# Altium footprint library Philips Footprints.PcbLib: 101 footprints (part 7 of 7)
Each footprint in its own frame and in the unit in brackets; x right, y up, seen from the top. Pads: shape width x height; smd on the part's side, far side on the other; paste and mask are expansions set on the pad; w line width, h text height; cw(c..) or ccw(c..) is an arc to the next point about the centre after c.
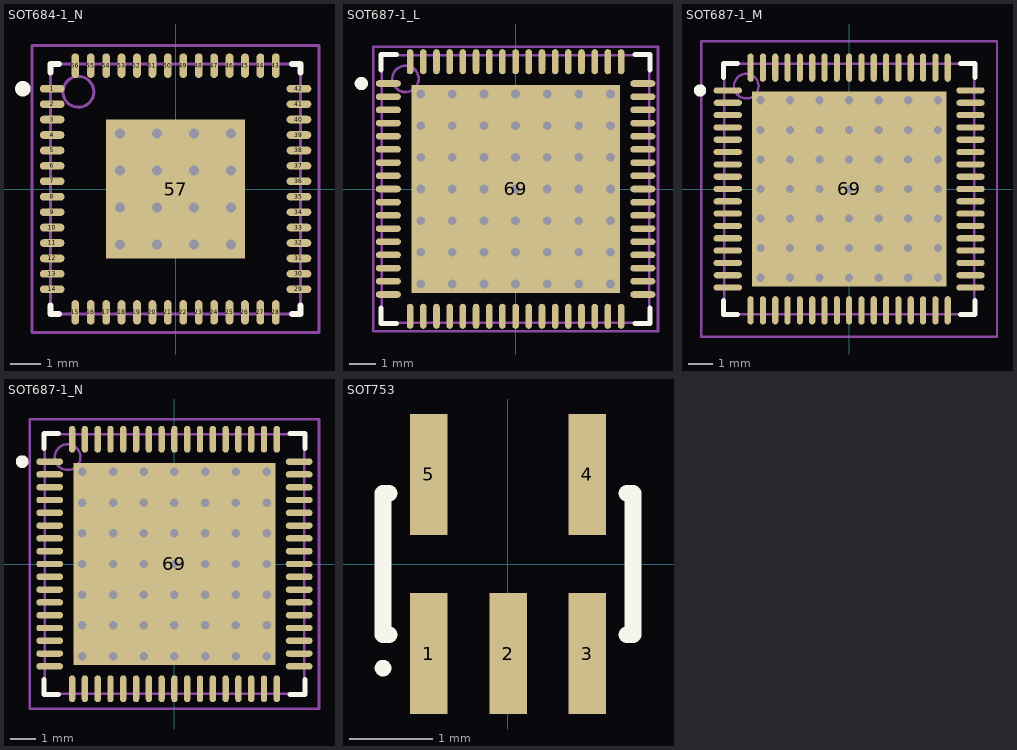
[diagram p6: the footprints below, top view; thin cyan lines are the x and y axes]

## SOT684-1_N [mm] "56-Pin Plastic Quad Flat No-Lead 0.5 mm Pitch, IPC Medium Density"
height 1
pads (57):
  oval 0.8x0.25 smd: 1(-4,3.25) 2(-4,2.75) 3(-4,2.25) 4(-4,1.75) 5(-4,1.25) 6(-4,0.75) 7(-4,0.25) 8(-4,-0.25) 9(-4,-0.75) 10(-4,-1.25) 11(-4,-1.75) 12(-4,-2.25) 13(-4,-2.75) 14(-4,-3.25) 29(4,-3.25) 30(4,-2.75) 31(4,-2.25) 32(4,-1.75) 33(4,-1.25) 34(4,-0.75) 35(4,-0.25) 36(4,0.25) 37(4,0.75) 38(4,1.25) 39(4,1.75) 40(4,2.25) 41(4,2.75) 42(4,3.25)
  oval 0.25x0.8 smd: 15(-3.25,-4) 16(-2.75,-4) 17(-2.25,-4) 18(-1.75,-4) 19(-1.25,-4) 20(-0.75,-4) 21(-0.25,-4) 22(0.25,-4) 23(0.75,-4) 24(1.25,-4) 25(1.75,-4) 26(2.25,-4) 27(2.75,-4) 28(3.25,-4) 43(3.25,4) 44(2.75,4) 45(2.25,4) 46(1.75,4) 47(1.25,4) 48(0.75,4) 49(0.25,4) 50(-0.25,4) 51(-0.75,4) 52(-1.25,4) 53(-1.75,4) 54(-2.25,4) 55(-2.75,4) 56(-3.25,4)
  rect 4.5x4.5 smd: 57(0,0)
via 1.8,-1.8 diameter 0.66 hole 0.33
via 0.6,-1.8 diameter 0.66 hole 0.33
via -0.6,-1.8 diameter 0.66 hole 0.33
via -1.8,-1.8 diameter 0.66 hole 0.33
via 1.8,-0.6 diameter 0.66 hole 0.33
via 0.6,-0.6 diameter 0.66 hole 0.33
via -0.6,-0.6 diameter 0.66 hole 0.33
via -1.8,-0.6 diameter 0.66 hole 0.33
via 1.8,0.6 diameter 0.66 hole 0.33
via 0.6,0.6 diameter 0.66 hole 0.33
via -0.6,0.6 diameter 0.66 hole 0.33
via -1.8,0.6 diameter 0.66 hole 0.33
via 1.8,1.8 diameter 0.66 hole 0.33
via 0.6,1.8 diameter 0.66 hole 0.33
via -0.6,1.8 diameter 0.66 hole 0.33
via -1.8,1.8 diameter 0.66 hole 0.33
Top Overlay:
  circle w0.25: c-4.95,3.25 r0.125
  lines w0.2: -4.05,-3.775 -4.05,-4.05 -3.775,-4.05 ; -4.05,3.775 -4.05,4.05 -3.775,4.05 ; 3.775,-4.05 4.05,-4.05 4.05,-3.775 ; 3.775,4.05 4.05,4.05 4.05,3.775
Mechanical 13:
  circle w0.1: c-3.15,3.15 r0.5
  lines w0.1: -4.05,-4.05 4.05,-4.05 4.05,4.05 -4.05,4.05 -4.05,-4.05
Mechanical 15:
  lines w0.1: -0.5,0 0.5,0 ; 0,-0.5 0,0.5 ; -4.65,-4.65 4.65,-4.65 4.65,4.65 -4.65,4.65 -4.65,-4.65
3D body: height 1, standoff 0, extent -4.05,-4.05 4.05,4.05

## SOT687-1_L [mm] "68-Pin Plastic Quad Flat No-Lead 0.5 mm Pitch, IPC High Density"
height 1
pads (69):
  oval 0.95x0.25 smd: 1(-4.825,4) 2(-4.825,3.5) 3(-4.825,3) 4(-4.825,2.5) 5(-4.825,2) 6(-4.825,1.5) 7(-4.825,1) 8(-4.825,0.5) 9(-4.825,0) 10(-4.825,-0.5) 11(-4.825,-1) 12(-4.825,-1.5) 13(-4.825,-2) 14(-4.825,-2.5) 15(-4.825,-3) 16(-4.825,-3.5) 17(-4.825,-4) 35(4.825,-4) 36(4.825,-3.5) 37(4.825,-3) 38(4.825,-2.5) 39(4.825,-2) 40(4.825,-1.5) 41(4.825,-1) 42(4.825,-0.5) 43(4.825,0) 44(4.825,0.5) 45(4.825,1) 46(4.825,1.5) 47(4.825,2) 48(4.825,2.5) 49(4.825,3) 50(4.825,3.5) 51(4.825,4)
  oval 0.25x0.95 smd: 18(-4,-4.825) 19(-3.5,-4.825) 20(-3,-4.825) 21(-2.5,-4.825) 22(-2,-4.825) 23(-1.5,-4.825) 24(-1,-4.825) 25(-0.5,-4.825) 26(0,-4.825) 27(0.5,-4.825) 28(1,-4.825) 29(1.5,-4.825) 30(2,-4.825) 31(2.5,-4.825) 32(3,-4.825) 33(3.5,-4.825) 34(4,-4.825) 52(4,4.825) 53(3.5,4.825) 54(3,4.825) 55(2.5,4.825) 56(2,4.825) 57(1.5,4.825) 58(1,4.825) 59(0.5,4.825) 60(0,4.825) 61(-0.5,4.825) 62(-1,4.825) 63(-1.5,4.825) 64(-2,4.825) 65(-2.5,4.825) 66(-3,4.825) 67(-3.5,4.825) 68(-4,4.825)
  rect 7.9x7.9 smd: 69(0,0)
via 3.6,-3.6 diameter 0.66 hole 0.33
via 2.4,-3.6 diameter 0.66 hole 0.33
via 1.2,-3.6 diameter 0.66 hole 0.33
via 0,-3.6 diameter 0.66 hole 0.33
via -1.2,-3.6 diameter 0.66 hole 0.33
via -2.4,-3.6 diameter 0.66 hole 0.33
via -3.6,-3.6 diameter 0.66 hole 0.33
via 3.6,-2.4 diameter 0.66 hole 0.33
via 2.4,-2.4 diameter 0.66 hole 0.33
via 1.2,-2.4 diameter 0.66 hole 0.33
via 0,-2.4 diameter 0.66 hole 0.33
via -1.2,-2.4 diameter 0.66 hole 0.33
via -2.4,-2.4 diameter 0.66 hole 0.33
via -3.6,-2.4 diameter 0.66 hole 0.33
via 3.6,-1.2 diameter 0.66 hole 0.33
via 2.4,-1.2 diameter 0.66 hole 0.33
via 1.2,-1.2 diameter 0.66 hole 0.33
via 0,-1.2 diameter 0.66 hole 0.33
via -1.2,-1.2 diameter 0.66 hole 0.33
via -2.4,-1.2 diameter 0.66 hole 0.33
via -3.6,-1.2 diameter 0.66 hole 0.33
via 3.6,0 diameter 0.66 hole 0.33
via 2.4,0 diameter 0.66 hole 0.33
via 1.2,0 diameter 0.66 hole 0.33
via 0,0 diameter 0.66 hole 0.33
via -1.2,0 diameter 0.66 hole 0.33
via -2.4,0 diameter 0.66 hole 0.33
via -3.6,0 diameter 0.66 hole 0.33
via 3.6,1.2 diameter 0.66 hole 0.33
via 2.4,1.2 diameter 0.66 hole 0.33
via 1.2,1.2 diameter 0.66 hole 0.33
via 0,1.2 diameter 0.66 hole 0.33
via -1.2,1.2 diameter 0.66 hole 0.33
via -2.4,1.2 diameter 0.66 hole 0.33
via -3.6,1.2 diameter 0.66 hole 0.33
via 3.6,2.4 diameter 0.66 hole 0.33
via 2.4,2.4 diameter 0.66 hole 0.33
via 1.2,2.4 diameter 0.66 hole 0.33
via 0,2.4 diameter 0.66 hole 0.33
via -1.2,2.4 diameter 0.66 hole 0.33
via -2.4,2.4 diameter 0.66 hole 0.33
via -3.6,2.4 diameter 0.66 hole 0.33
via 3.6,3.6 diameter 0.66 hole 0.33
via 2.4,3.6 diameter 0.66 hole 0.33
via 1.2,3.6 diameter 0.66 hole 0.33
via 0,3.6 diameter 0.66 hole 0.33
via -1.2,3.6 diameter 0.66 hole 0.33
via -2.4,3.6 diameter 0.66 hole 0.33
via -3.6,3.6 diameter 0.66 hole 0.33
Top Overlay:
  circle w0.25: c-5.85,4 r0.125
  lines w0.2: -5.1,-4.525 -5.1,-5.1 -4.525,-5.1 ; -5.1,4.525 -5.1,5.1 -4.525,5.1 ; 4.525,-5.1 5.1,-5.1 5.1,-4.525 ; 4.525,5.1 5.1,5.1 5.1,4.525
Mechanical 13:
  circle w0.1: c-4.175,4.175 r0.5
  lines w0.1: -5.075,-5.075 5.075,-5.075 5.075,5.075 -5.075,5.075 -5.075,-5.075
Mechanical 15:
  lines w0.1: -0.5,0 0.5,0 ; 0,-0.5 0,0.5 ; -5.4,-5.4 5.4,-5.4 5.4,5.4 -5.4,5.4 -5.4,-5.4
3D body: height 1, standoff 0, extent -5.075,-5.075 5.075,5.075

## SOT687-1_M [mm] "68-Pin Plastic Quad Flat No-Lead 0.5 mm Pitch, IPC Low Density"
height 1
pads (69):
  oval 1.15x0.25 smd: 1(-4.925,4) 2(-4.925,3.5) 3(-4.925,3) 4(-4.925,2.5) 5(-4.925,2) 6(-4.925,1.5) 7(-4.925,1) 8(-4.925,0.5) 9(-4.925,0) 10(-4.925,-0.5) 11(-4.925,-1) 12(-4.925,-1.5) 13(-4.925,-2) 14(-4.925,-2.5) 15(-4.925,-3) 16(-4.925,-3.5) 17(-4.925,-4) 35(4.925,-4) 36(4.925,-3.5) 37(4.925,-3) 38(4.925,-2.5) 39(4.925,-2) 40(4.925,-1.5) 41(4.925,-1) 42(4.925,-0.5) 43(4.925,0) 44(4.925,0.5) 45(4.925,1) 46(4.925,1.5) 47(4.925,2) 48(4.925,2.5) 49(4.925,3) 50(4.925,3.5) 51(4.925,4)
  oval 0.25x1.15 smd: 18(-4,-4.925) 19(-3.5,-4.925) 20(-3,-4.925) 21(-2.5,-4.925) 22(-2,-4.925) 23(-1.5,-4.925) 24(-1,-4.925) 25(-0.5,-4.925) 26(0,-4.925) 27(0.5,-4.925) 28(1,-4.925) 29(1.5,-4.925) 30(2,-4.925) 31(2.5,-4.925) 32(3,-4.925) 33(3.5,-4.925) 34(4,-4.925) 52(4,4.925) 53(3.5,4.925) 54(3,4.925) 55(2.5,4.925) 56(2,4.925) 57(1.5,4.925) 58(1,4.925) 59(0.5,4.925) 60(0,4.925) 61(-0.5,4.925) 62(-1,4.925) 63(-1.5,4.925) 64(-2,4.925) 65(-2.5,4.925) 66(-3,4.925) 67(-3.5,4.925) 68(-4,4.925)
  rect 7.9x7.9 smd: 69(0,0)
via 3.6,-3.6 diameter 0.66 hole 0.33
via 2.4,-3.6 diameter 0.66 hole 0.33
via 1.2,-3.6 diameter 0.66 hole 0.33
via 0,-3.6 diameter 0.66 hole 0.33
via -1.2,-3.6 diameter 0.66 hole 0.33
via -2.4,-3.6 diameter 0.66 hole 0.33
via -3.6,-3.6 diameter 0.66 hole 0.33
via 3.6,-2.4 diameter 0.66 hole 0.33
via 2.4,-2.4 diameter 0.66 hole 0.33
via 1.2,-2.4 diameter 0.66 hole 0.33
via 0,-2.4 diameter 0.66 hole 0.33
via -1.2,-2.4 diameter 0.66 hole 0.33
via -2.4,-2.4 diameter 0.66 hole 0.33
via -3.6,-2.4 diameter 0.66 hole 0.33
via 3.6,-1.2 diameter 0.66 hole 0.33
via 2.4,-1.2 diameter 0.66 hole 0.33
via 1.2,-1.2 diameter 0.66 hole 0.33
via 0,-1.2 diameter 0.66 hole 0.33
via -1.2,-1.2 diameter 0.66 hole 0.33
via -2.4,-1.2 diameter 0.66 hole 0.33
via -3.6,-1.2 diameter 0.66 hole 0.33
via 3.6,0 diameter 0.66 hole 0.33
via 2.4,0 diameter 0.66 hole 0.33
via 1.2,0 diameter 0.66 hole 0.33
via 0,0 diameter 0.66 hole 0.33
via -1.2,0 diameter 0.66 hole 0.33
via -2.4,0 diameter 0.66 hole 0.33
via -3.6,0 diameter 0.66 hole 0.33
via 3.6,1.2 diameter 0.66 hole 0.33
via 2.4,1.2 diameter 0.66 hole 0.33
via 1.2,1.2 diameter 0.66 hole 0.33
via 0,1.2 diameter 0.66 hole 0.33
via -1.2,1.2 diameter 0.66 hole 0.33
via -2.4,1.2 diameter 0.66 hole 0.33
via -3.6,1.2 diameter 0.66 hole 0.33
via 3.6,2.4 diameter 0.66 hole 0.33
via 2.4,2.4 diameter 0.66 hole 0.33
via 1.2,2.4 diameter 0.66 hole 0.33
via 0,2.4 diameter 0.66 hole 0.33
via -1.2,2.4 diameter 0.66 hole 0.33
via -2.4,2.4 diameter 0.66 hole 0.33
via -3.6,2.4 diameter 0.66 hole 0.33
via 3.6,3.6 diameter 0.66 hole 0.33
via 2.4,3.6 diameter 0.66 hole 0.33
via 1.2,3.6 diameter 0.66 hole 0.33
via 0,3.6 diameter 0.66 hole 0.33
via -1.2,3.6 diameter 0.66 hole 0.33
via -2.4,3.6 diameter 0.66 hole 0.33
via -3.6,3.6 diameter 0.66 hole 0.33
Top Overlay:
  circle w0.25: c-6.05,4 r0.125
  lines w0.2: -5.1,-4.525 -5.1,-5.1 -4.525,-5.1 ; -5.1,4.525 -5.1,5.1 -4.525,5.1 ; 4.525,-5.1 5.1,-5.1 5.1,-4.525 ; 4.525,5.1 5.1,5.1 5.1,4.525
Mechanical 13:
  circle w0.1: c-4.175,4.175 r0.5
  lines w0.1: -5.075,-5.075 5.075,-5.075 5.075,5.075 -5.075,5.075 -5.075,-5.075
Mechanical 15:
  lines w0.1: -0.5,0 0.5,0 ; 0,-0.5 0,0.5 ; -6,-6 6,-6 6,6 -6,6 -6,-6
3D body: height 1, standoff 0, extent -5.075,-5.075 5.075,5.075

## SOT687-1_N [mm] "68-Pin Plastic Quad Flat No-Lead 0.5 mm Pitch, IPC Medium Density"
height 1
pads (69):
  oval 1.05x0.25 smd: 1(-4.875,4) 2(-4.875,3.5) 3(-4.875,3) 4(-4.875,2.5) 5(-4.875,2) 6(-4.875,1.5) 7(-4.875,1) 8(-4.875,0.5) 9(-4.875,0) 10(-4.875,-0.5) 11(-4.875,-1) 12(-4.875,-1.5) 13(-4.875,-2) 14(-4.875,-2.5) 15(-4.875,-3) 16(-4.875,-3.5) 17(-4.875,-4) 35(4.875,-4) 36(4.875,-3.5) 37(4.875,-3) 38(4.875,-2.5) 39(4.875,-2) 40(4.875,-1.5) 41(4.875,-1) 42(4.875,-0.5) 43(4.875,0) 44(4.875,0.5) 45(4.875,1) 46(4.875,1.5) 47(4.875,2) 48(4.875,2.5) 49(4.875,3) 50(4.875,3.5) 51(4.875,4)
  oval 0.25x1.05 smd: 18(-4,-4.875) 19(-3.5,-4.875) 20(-3,-4.875) 21(-2.5,-4.875) 22(-2,-4.875) 23(-1.5,-4.875) 24(-1,-4.875) 25(-0.5,-4.875) 26(0,-4.875) 27(0.5,-4.875) 28(1,-4.875) 29(1.5,-4.875) 30(2,-4.875) 31(2.5,-4.875) 32(3,-4.875) 33(3.5,-4.875) 34(4,-4.875) 52(4,4.875) 53(3.5,4.875) 54(3,4.875) 55(2.5,4.875) 56(2,4.875) 57(1.5,4.875) 58(1,4.875) 59(0.5,4.875) 60(0,4.875) 61(-0.5,4.875) 62(-1,4.875) 63(-1.5,4.875) 64(-2,4.875) 65(-2.5,4.875) 66(-3,4.875) 67(-3.5,4.875) 68(-4,4.875)
  rect 7.9x7.9 smd: 69(0,0)
via 3.6,-3.6 diameter 0.66 hole 0.33
via 2.4,-3.6 diameter 0.66 hole 0.33
via 1.2,-3.6 diameter 0.66 hole 0.33
via 0,-3.6 diameter 0.66 hole 0.33
via -1.2,-3.6 diameter 0.66 hole 0.33
via -2.4,-3.6 diameter 0.66 hole 0.33
via -3.6,-3.6 diameter 0.66 hole 0.33
via 3.6,-2.4 diameter 0.66 hole 0.33
via 2.4,-2.4 diameter 0.66 hole 0.33
via 1.2,-2.4 diameter 0.66 hole 0.33
via 0,-2.4 diameter 0.66 hole 0.33
via -1.2,-2.4 diameter 0.66 hole 0.33
via -2.4,-2.4 diameter 0.66 hole 0.33
via -3.6,-2.4 diameter 0.66 hole 0.33
via 3.6,-1.2 diameter 0.66 hole 0.33
via 2.4,-1.2 diameter 0.66 hole 0.33
via 1.2,-1.2 diameter 0.66 hole 0.33
via 0,-1.2 diameter 0.66 hole 0.33
via -1.2,-1.2 diameter 0.66 hole 0.33
via -2.4,-1.2 diameter 0.66 hole 0.33
via -3.6,-1.2 diameter 0.66 hole 0.33
via 3.6,0 diameter 0.66 hole 0.33
via 2.4,0 diameter 0.66 hole 0.33
via 1.2,0 diameter 0.66 hole 0.33
via 0,0 diameter 0.66 hole 0.33
via -1.2,0 diameter 0.66 hole 0.33
via -2.4,0 diameter 0.66 hole 0.33
via -3.6,0 diameter 0.66 hole 0.33
via 3.6,1.2 diameter 0.66 hole 0.33
via 2.4,1.2 diameter 0.66 hole 0.33
via 1.2,1.2 diameter 0.66 hole 0.33
via 0,1.2 diameter 0.66 hole 0.33
via -1.2,1.2 diameter 0.66 hole 0.33
via -2.4,1.2 diameter 0.66 hole 0.33
via -3.6,1.2 diameter 0.66 hole 0.33
via 3.6,2.4 diameter 0.66 hole 0.33
via 2.4,2.4 diameter 0.66 hole 0.33
via 1.2,2.4 diameter 0.66 hole 0.33
via 0,2.4 diameter 0.66 hole 0.33
via -1.2,2.4 diameter 0.66 hole 0.33
via -2.4,2.4 diameter 0.66 hole 0.33
via -3.6,2.4 diameter 0.66 hole 0.33
via 3.6,3.6 diameter 0.66 hole 0.33
via 2.4,3.6 diameter 0.66 hole 0.33
via 1.2,3.6 diameter 0.66 hole 0.33
via 0,3.6 diameter 0.66 hole 0.33
via -1.2,3.6 diameter 0.66 hole 0.33
via -2.4,3.6 diameter 0.66 hole 0.33
via -3.6,3.6 diameter 0.66 hole 0.33
Top Overlay:
  circle w0.25: c-5.95,4 r0.125
  lines w0.2: -5.1,-4.525 -5.1,-5.1 -4.525,-5.1 ; -5.1,4.525 -5.1,5.1 -4.525,5.1 ; 4.525,-5.1 5.1,-5.1 5.1,-4.525 ; 4.525,5.1 5.1,5.1 5.1,4.525
Mechanical 13:
  circle w0.1: c-4.175,4.175 r0.5
  lines w0.1: -5.075,-5.075 5.075,-5.075 5.075,5.075 -5.075,5.075 -5.075,-5.075
Mechanical 15:
  lines w0.1: -0.5,0 0.5,0 ; 0,-0.5 0,0.5 ; -5.65,-5.65 5.65,-5.65 5.65,5.65 -5.65,5.65 -5.65,-5.65
3D body: height 1, standoff 0, extent -5.075,-5.075 5.075,5.075

## SOT753 [mm] "SOT-23/SC-74A; 5 Leads; Body 3.1 x 3 mm, inc. leads (LxW max)"
height 1.1
pads (5):
  rect 0.45x1.45 smd: 1(-0.95,-1.075) 2(0,-1.075) 3(0.95,-1.075) 4(0.95,1.075) 5(-0.95,1.075)
Top Overlay:
  circle w0.1: c-1.5,-1.25 r0.05
  lines w0.2: -1.425,-0.85 -1.5,-0.85 -1.5,0.85 -1.425,0.85 ; 1.425,-0.85 1.5,-0.85 1.5,0.85 1.425,0.85